# Altium schematic symbol library Capacitors.SchLib: 2 symbols
Pins are listed as number, name and electrical type; pins without a type are passive.

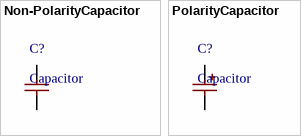
[diagram p0: symbols Non-PolarityCapacitor to PolarityCapacitor]

## Non-PolarityCapacitor
designator C?, comment Capacitor
PolarityCapacitor; Type: Type
footprint SMD Capacitor 0402 (0402)
footprint SMD Capacitor 0603 (0603)
footprint SMD Capacitor 0805 (0805)
footprint DIP CAPACITOR 15x9x14 (DIP 15x9x14)
footprint DIP CAPACITOR 10x6x10 (DIP 10x6x10)
footprint CK45 Series (CK45 Series Pitch 5.0mm)
pins: 1, 2

## PolarityCapacitor
designator C?, comment Capacitor
PolarityCapacitor; Type: Type
footprint SMD Electrolytic Capacitor 10mm*10mm (10mm*10mm)
footprint SMD Tantalum Capacitor 3216(A) (3216(A))
pins: 1, 2